# EAGLE library part 66200711022 (library Wire-to-Board (rev18a))
WR-MPC3 3.00mm Male Single Row Angled Header with Plastic Pegs, 7 Pins=>Code : Con_WTB_MPC3_1_PCB_66200711022 <http://katalog.we-online.de/media/thumbs2/eican/thb_Con_WTB_MPC3_1_PCB_6620xx11022_pf2.jpg> Details see: http://katalog.we-online.de/en/em/MPC3_3_00_SMT_MALE_SINGLE_ROW_ANGLED_HEADER_W_PLASTIC_PEGS_6620XX11022 Created 2014-06-06, Karrer Zheng 2014 (C) Würth Elektronik
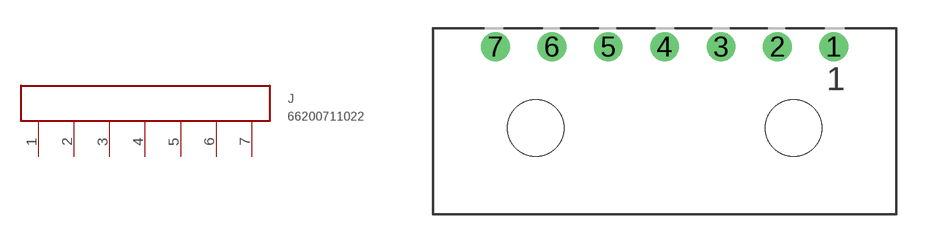
[diagram p334: symbol with the pads of 66200711022; footprint 66200711022]

Designator prefix J

## 66200711022  [66200711022]
1  1  pas
2  2  pas
3  3  pas
4  4  pas
5  5  pas
6  6  pas
7  7  pas

## Footprint 66200711022 (pad centres in mm)
WR-MPC3 3.00mm Male Single Row Angled Header with Plastic Pegs, 7 Pins
drill 1.02: 1 9,4.32; 2 6,4.32; 3 3,4.32; 4 0,4.32; 5 -3,4.32; 6 -6,4.32; 7 -9,4.32
hole 3 at 6.85,0
hole 3 at -6.85,0